# EAGLE library part AK7730 (library akm)
ADC + Audio DSP (Normal Mode) 24-Bit, 2-Channel
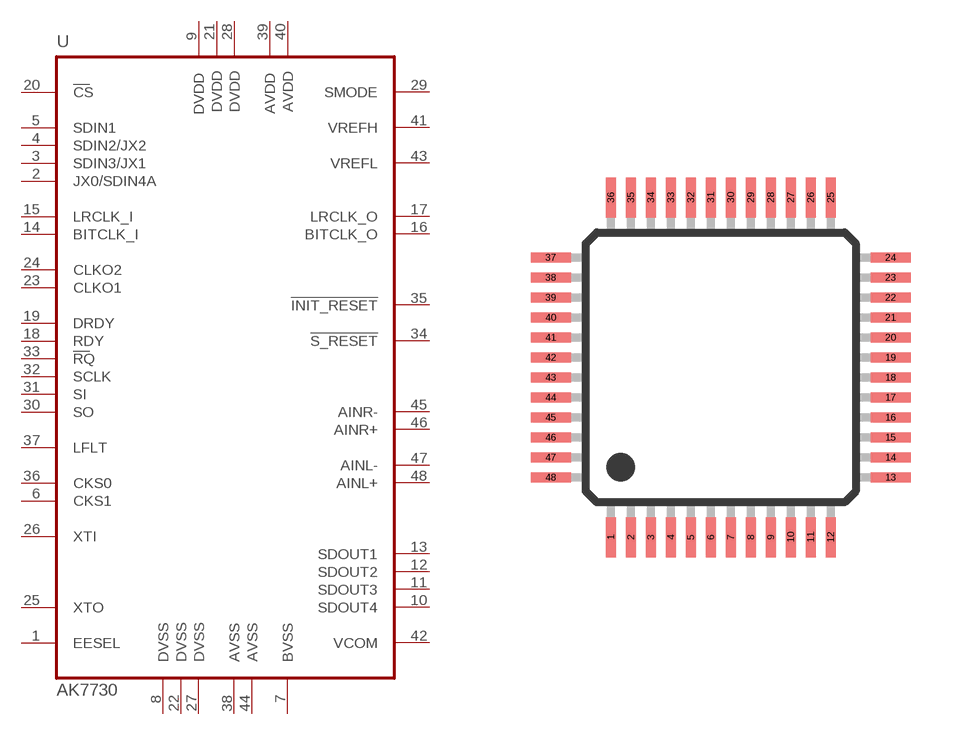
[diagram p13: symbol with the pads of LQFP48; footprint LQFP48]

Designator prefix U

## AK7730  [LQFP48]
1  EESEL  in
2  JX0/SDIN4A  in
3  SDIN3/JX1  in
4  SDIN2/JX2  in
5  SDIN1  in
6  CKS1  in
7  BVSS  pwr
8  DVSS  pwr
9  DVDD  pwr
10  SDOUT4  out
11  SDOUT3  out
12  SDOUT2  out
13  SDOUT1  out
14  BITCLK_I  in
15  LRCLK_I
16  BITCLK_O
17  LRCLK_O  out
18  RDY  out
19  DRDY  out
20  CS  in
21  DVDD1  pwr
22  DVSS1  pwr
23  CLKO1  out
24  CLKO2  out
25  XTO  out
26  XTI  in
27  DVSS2  pwr
28  DVDD2  pwr
29  SMODE
30  SO
31  SI  in
32  SCLK  in
33  RQ  in
34  !S_RESET!  in
35  !INIT_RESET!  in
36  CKS0  in
37  LFLT
38  AVSS  pwr
39  AVDD  pwr
40  AVDD2  pwr
41  VREFH  in
42  VCOM  out
43  VREFL  in
44  AVSS1  pwr
45  AINR-  in
46  AINR+  in
47  AINL-  in
48  AINL+  in

## Footprint LQFP48 (pad centres in mm)
LQFP48
smd 0.25 x 1: 1 -2.75,-4.25; 2 -2.25,-4.25; 3 -1.75,-4.25; 4 -1.25,-4.25; 5 -0.75,-4.25; 6 -0.25,-4.25; 7 0.25,-4.25; 8 0.75,-4.25; 9 1.25,-4.25; 10 1.75,-4.25; 11 2.25,-4.25; 12 2.75,-4.25; 25 2.75,4.25; 26 2.25,4.25; 27 1.75,4.25; 28 1.25,4.25; 29 0.75,4.25; 30 0.25,4.25; 31 -0.25,4.25; 32 -0.75,4.25; 33 -1.25,4.25; 34 -1.75,4.25; 35 -2.25,4.25; 36 -2.75,4.25
smd 1 x 0.25: 13 4.25,-2.75; 14 4.25,-2.25; 15 4.25,-1.75; 16 4.25,-1.25; 17 4.25,-0.75; 18 4.25,-0.25; 19 4.25,0.25; 20 4.25,0.75; 21 4.25,1.25; 22 4.25,1.75; 23 4.25,2.25; 24 4.25,2.75; 37 -4.25,2.75; 38 -4.25,2.25; 39 -4.25,1.75; 40 -4.25,1.25; 41 -4.25,0.75; 42 -4.25,0.25; 43 -4.25,-0.25; 44 -4.25,-0.75; 45 -4.25,-1.25; 46 -4.25,-1.75; 47 -4.25,-2.25; 48 -4.25,-2.75